# Altium footprint library резисторы.PcbLib: 27 footprints (part 2 of 2)
Each footprint in its own frame and in the unit in brackets; x right, y up, seen from the top. Pads: shape width x height; smd on the part's side, far side on the other; paste and mask are expansions set on the pad; w line width, h text height; cw(c..) or ccw(c..) is an arc to the next point about the centre after c.
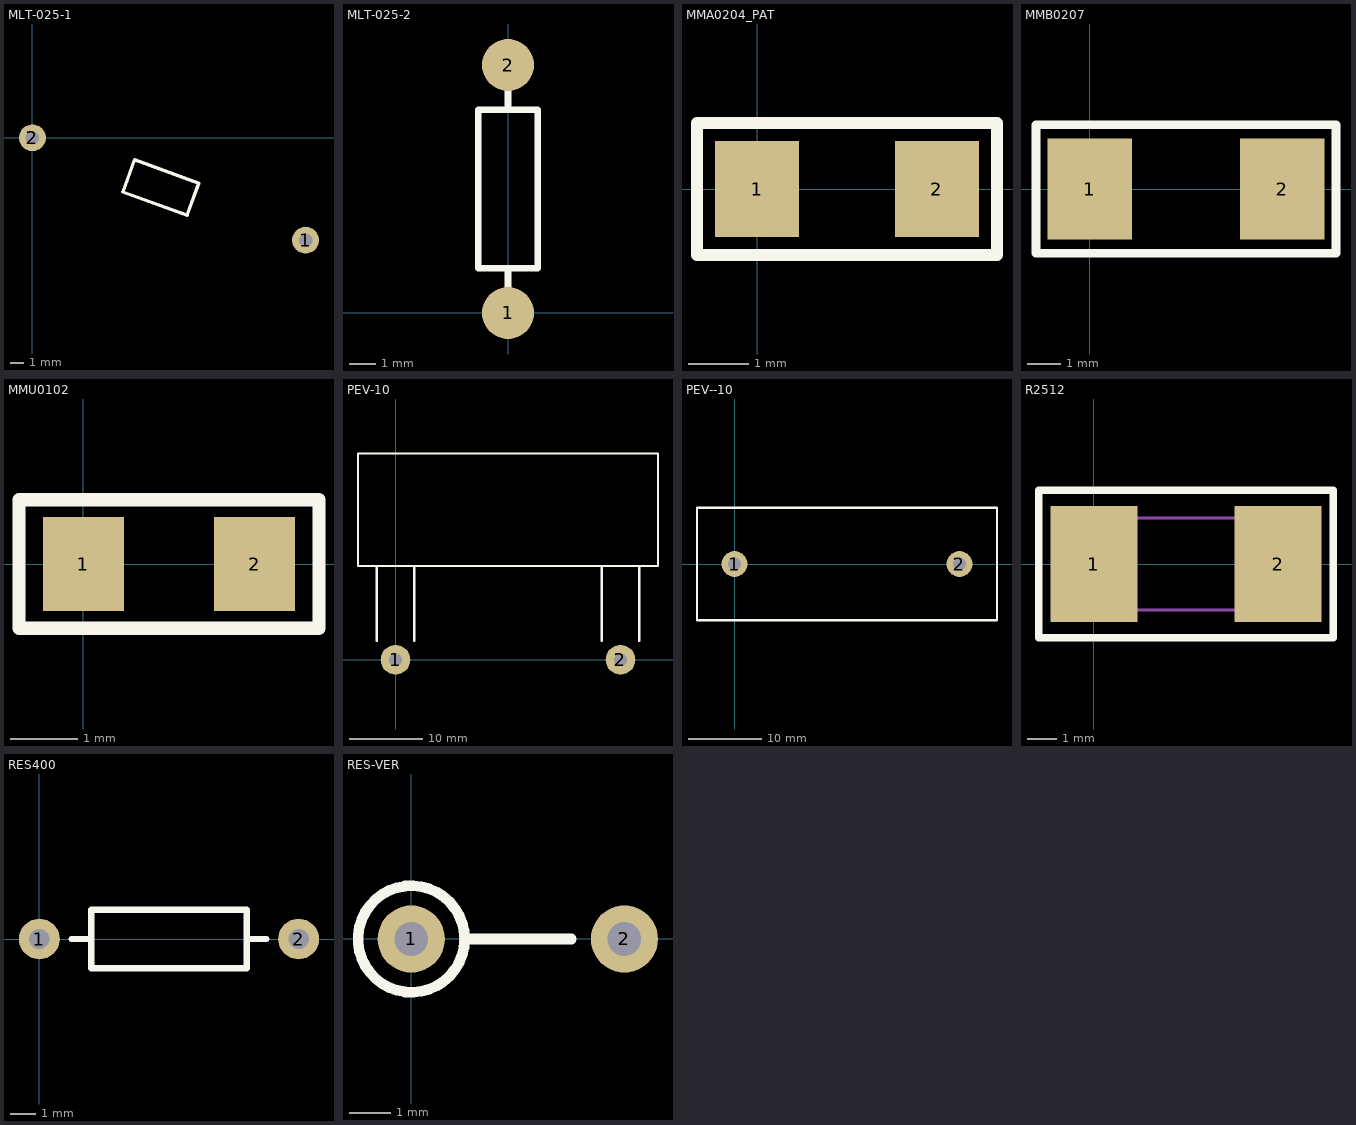
[diagram p1: the footprints below, top view; thin cyan lines are the x and y axes]

## MLT-025-1 [mm]
pads (2):
  round 2 hole 1: 1(20.32,-7.62) 2(0,0)
Top Overlay:
  lines w0.254: 6.732,-4.029 11.505,-5.767 12.374,-3.38 7.601,-1.642 6.732,-4.029

## MLT-025-2 [mm]
pads (2):
  round 2 smd: 1(0,0) 2(0,9.525)
Top Overlay:
  lines w0.254: 0,0.953 0,1.714 ; 0,7.81 0,8.572 ; -1.143,1.715 1.143,1.714 1.143,7.81 -1.143,7.811 -1.143,1.715

## MMA0204_PAT [mm]
pads (2):
  rect 1.4x1.6 smd: 1(0,0) 2(3,0)
Top Overlay:
  lines w0.2: -1,-1.1 4,-1.1 4,1.1 -1,1.1 -1,-1.1

## MMB0207 [mm]
pads (2):
  rect 2.5x3 smd: 1(0,0) 2(5.715,0)
Top Overlay:
  lines w0.254: -1.587,-1.905 7.302,-1.905 7.302,1.905 -1.587,1.905 -1.587,-1.905

## MMU0102 [mm]
pads (2):
  rect 1.2x1.4 smd: 1(0,0) 2(2.54,0)
Top Overlay:
  lines w0.2: -0.953,-0.953 3.492,-0.953 3.492,0.953 -0.953,0.953 -0.953,-0.953

## PCBComponent_1 [mm]

## PEV-10 [mm]
pads (2):
  round 4 hole 1.7: 1(0,0) 2(30.48,0)
Top Overlay:
  lines w0.305: -2.54,2.54 -2.54,12.7 ; 2.54,2.54 2.54,12.7 ; 27.94,2.54 27.94,12.7 ; 33.02,2.54 33.02,12.7 ; -5.08,12.7 35.56,12.7 35.56,27.94 -5.08,27.94 -5.08,12.7

## PEV--10 [mm]
pads (2):
  round 3.5 hole 1.7: 1(0,0) 2(30.48,0)
Top Overlay:
  lines w0.305: -5.08,-7.62 35.56,-7.62 35.56,7.62 -5.08,7.62 -5.08,-7.62

## R2512 [mm]
pads (2):
  rect 3x4 smd: 1(0,0) 2(6.35,0)
Top Overlay:
  lines w0.254: -1.905,-2.54 8.255,-2.54 8.255,2.54 -1.905,2.54 -1.905,-2.54
Mechanical 10:
  lines w0.1: 0,-1.587 6.35,-1.587 6.35,1.587 0,1.587 0,-1.587

## RES400 [mm]
pads (2):
  round 1.6 hole 0.8: 1(0,0) 2(10.16,0)
Top Overlay:
  lines w0.254: 1.27,0 2.032,0 ; 8.128,0 8.89,0 ; 2.032,-1.143 8.128,-1.143 8.128,1.143 2.032,1.143 2.032,-1.143

## RES-VER [mm]
pads (2):
  round 1.6 hole 0.8: 1(0,0) 2(5.08,0)
Top Overlay:
  circle w0.254: c0,0 r1.27
  lines w0.254: 1.27,0 3.81,0